# Altium integrated library Allegro Interface Vacuum Fluorescent Display Driver.IntLib: 16 symbols
Pins are listed as number, name and electrical type; pins without a type are passive.

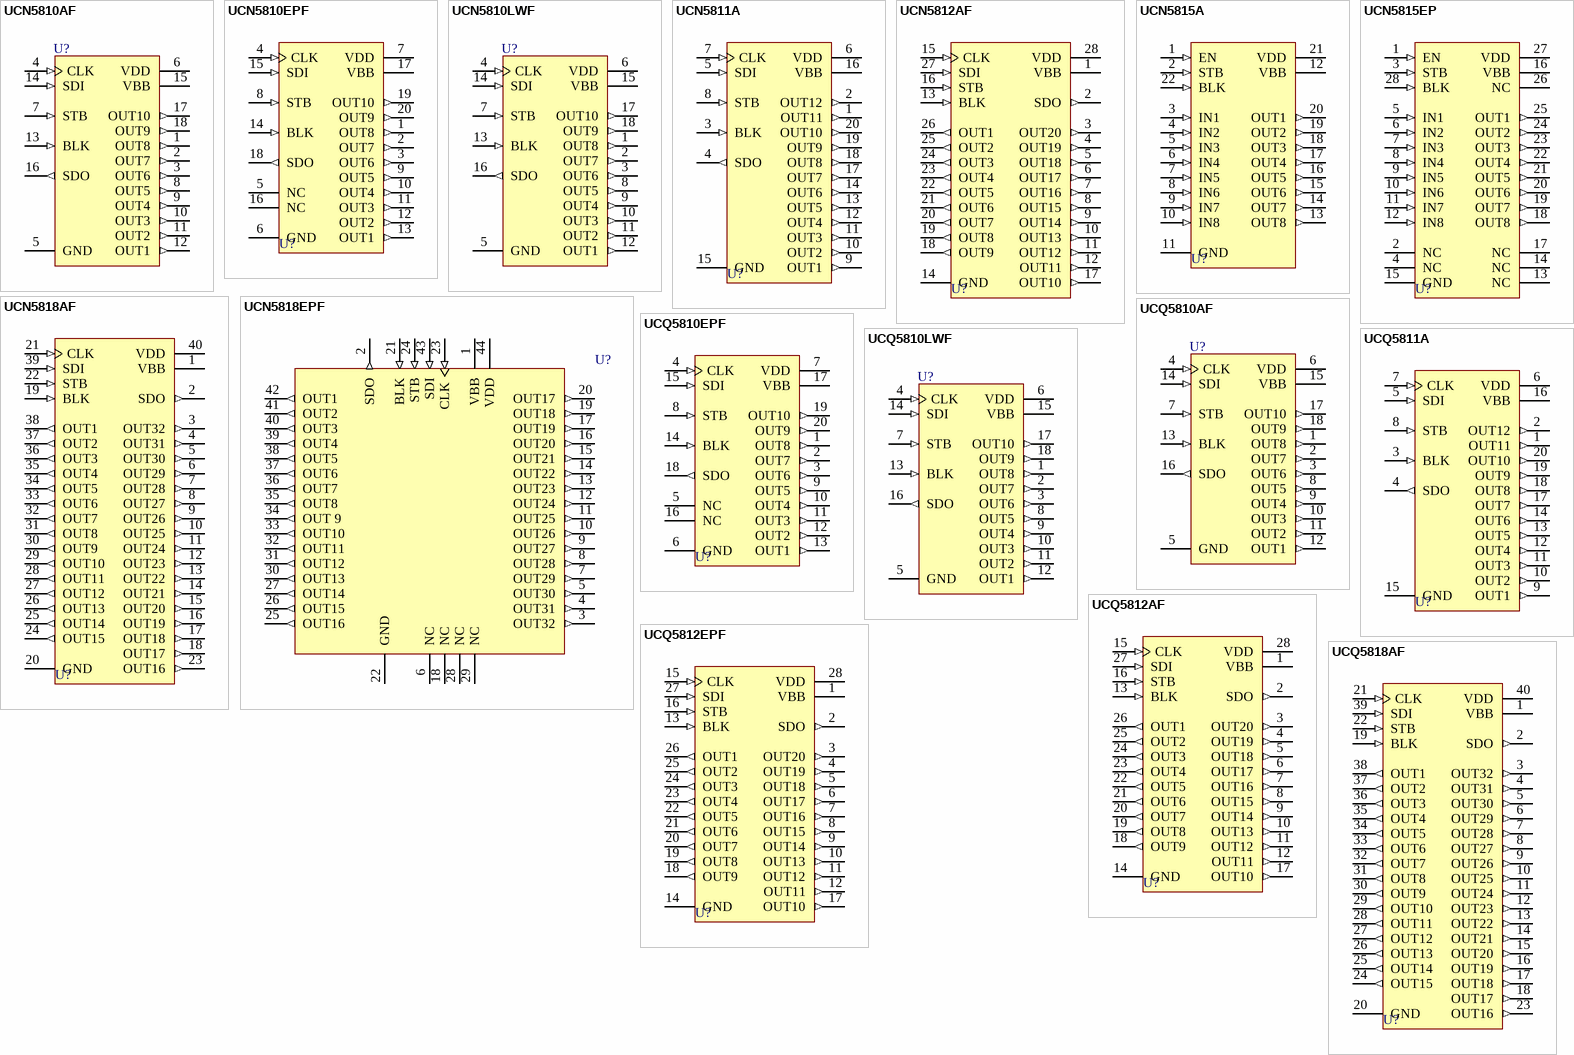
[diagram p0: symbols UCN5810AF to UCQ5818AF]

## UCN5810AF
designator U?
BiMOS II 10-Bit Serial-Input, Latched Source Driver with Active-DMOS Pull-Downs; ComponentAvailability: Obsolete; Published: 13-Oct-2000; LatestRevisionDate: 06-Jun-2005; LatestRevisionNote: Stylized 3D Model Added.; DatasheetVersion: 1995; PackageVersion: 1999; PackageReference: A18; Publisher: Altium Limited; PackageDescription: DIP; 18 Leads; Row Spacing 7.62 mm; Pitch 2.54 mm; ComponentLink1Description: Manufacturer Link; ComponentLink1URL: http://www.allegromicro.com/; ComponentLink2Description: Datasheet; ComponentLink2URL: http://www.allegromicro.com/datafile/archive/5810.pdf
footprint A18 (DIP; 18 Leads; Row Spacing 7.62 mm; Pitch 2.54 mm)
3D model A18 (DIP; 18 Leads; Row Spacing 7.62 mm; Pitch 2.54 mm)
pins: 1 OUT8 (out), 2 OUT7 (out), 3 OUT6 (out), 4 CLK (in), 5 GND (power), 6 VDD (power), 7 STB (in), 8 OUT5 (out), 9 OUT4 (out), 10 OUT3 (out), 11 OUT2 (out), 12 OUT1 (out), 13 BLK (in), 14 SDI (in), 15 VBB (power), 16 SDO (out), 17 OUT10 (out), 18 OUT9 (out)

## UCN5810EPF
designator U?
BiMOS II 10-Bit Serial-Input, Latched Source Driver with Active-DMOS Pull-Downs; ComponentAvailability: Obsolete; Published: 13-Oct-2000; LatestRevisionDate: 13-Apr-2006; LatestRevisionNote: IPC-7351 Footprint Added.; DatasheetVersion: 1995; PackageVersion: 1995; PackageReference: EP20; Publisher: Altium Limited; PackageDescription: 20-Pin Leaded Chip Carrier 1.27 mm Pitch; Code_IPC: PLCC-20; ComponentLink1Description: Manufacturer Link; ComponentLink1URL: http://www.allegromicro.com/; ComponentLink2Description: Datasheet; ComponentLink2URL: http://www.allegromicro.com/datafile/archive/5810.pdf
footprint EP20_N (Leaded Chip Carrier, 20-Leads, Body 9x9mm, Pitch 1.27mm, IPC Medium Density)
footprint EP20_L (Leaded Chip Carrier, 20-Leads, Body 9x9mm, Pitch 1.27mm, IPC High Density)
footprint EP20_M (Leaded Chip Carrier, 20-Leads, Body 9x9mm, Pitch 1.27mm, IPC Low Density)
3D model UCN5810-EP20 (20-Pin Leaded Chip Carrier 1.27 mm Pitch)
pins: 1 OUT8 (out), 2 OUT7 (out), 3 OUT6 (out), 4 CLK (in), 5 NC, 6 GND (power), 7 VDD (power), 8 STB (in), 9 OUT5 (out), 10 OUT4 (out), 11 OUT3 (out), 12 OUT2 (out), 13 OUT1 (out), 14 BLK (in), 15 SDI (in), 16 NC, 17 VBB (power), 18 SDO (out), 19 OUT10 (out), 20 OUT9 (out)

## UCN5810LWF
designator U?
BiMOS II 10-Bit Serial-Input, Latched Source Driver with Active-DMOS Pull-Downs; ComponentAvailability: Obsolete; Published: 13-Oct-2000; LatestRevisionDate: 13-Apr-2006; LatestRevisionNote: IPC-7351 Footprint Added.; DatasheetVersion: 1995; PackageReference: LW18; Publisher: Altium Limited; PackageDescription: 18-Pin Small Outline Integrated Circuit 1.27 mm Pitch; Code_JEDEC: MS-013-AB; ComponentLink1Description: Manufacturer Link; ComponentLink1URL: http://www.allegromicro.com/; ComponentLink2Description: Datasheet; ComponentLink2URL: http://www.allegromicro.com/datafile/archive/5810.pdf
footprint LW18_N (SOIC, 18-Leads, Body 11.6x7.5mm, Pitch 1.27mm, IPC Medium Density)
footprint LW18_L (SOIC, 18-Leads, Body 11.6x7.5mm, Pitch 1.27mm, IPC High Density)
footprint LW18_M (SOIC, 18-Leads, Body 11.6x7.5mm, Pitch 1.27mm, IPC Low Density)
3D model LW18 (18-Pin Small Outline Integrated Circuit 1.27 mm Pitch)
pins: 1 OUT8 (out), 2 OUT7 (out), 3 OUT6 (out), 4 CLK (in), 5 GND (power), 6 VDD (power), 7 STB (in), 8 OUT5 (out), 9 OUT4 (out), 10 OUT3 (out), 11 OUT2 (out), 12 OUT1 (out), 13 BLK (in), 14 SDI (in), 15 VBB (power), 16 SDO (out), 17 OUT10 (out), 18 OUT9 (out)

## UCN5811A
designator U?
BiMOS II 12-Bit Serial-Input, Latched Source Driver; ComponentAvailability: Obsolete; Published: 13-Oct-2000; LatestRevisionDate: 06-Jun-2005; LatestRevisionNote: Stylized 3D Model Added.; DatasheetVersion: 1995; PackageVersion: 1995; PackageReference: A20; Publisher: Altium Limited; PackageDescription: DIP; 20 Leads; Row Spacing 7.62 mm; Pitch 2.54 mm; Code_JEDEC: MS-001-AD; ComponentLink1Description: Manufacturer Link; ComponentLink1URL: http://www.allegromicro.com/; ComponentLink2Description: Datasheet; ComponentLink2URL: http://www.allegromicro.com/datafile/archive/5811.pdf
footprint A20 (DIP; 20 Leads; Row Spacing 7.62 mm; Pitch 2.54 mm)
3D model A20 (DIP; 20 Leads; Row Spacing 7.62 mm; Pitch 2.54 mm)
pins: 1 OUT11 (out), 2 OUT12 (out), 3 BLK (in), 4 SDO (out), 5 SDI (in), 6 VDD (power), 7 CLK (in), 8 STB (in), 9 OUT1 (out), 10 OUT2 (out), 11 OUT3 (out), 12 OUT4 (out), 13 OUT5 (out), 14 OUT6 (out), 15 GND (power), 16 VBB (power), 17 OUT7 (out), 18 OUT8 (out), 19 OUT9 (out), 20 OUT10 (out)

## UCN5812AF
designator U?
BiMOS II 20-Bit Serial-Input, Latched Source Driver with Active-DMOS Pull-Downs; ComponentAvailability: Obsolete; Published: 13-Oct-2000; LatestRevisionDate: 06-Jun-2005; LatestRevisionNote: Stylized 3D Model Added.; DatasheetVersion: 1995; PackageVersion: 1995; PackageReference: A28; Publisher: Altium Limited; PackageDescription: DIP; 28 Leads; Row Spacing 15.24 mm; Pitch 2.54 mm; Code_JEDEC: MS-011-AB; ComponentLink1Description: Manufacturer Link; ComponentLink1URL: http://www.allegromicro.com/; ComponentLink2Description: Datasheet; ComponentLink2URL: http://www.allegromicro.com/datafile/archive/5812.pdf
footprint A28 (DIP; 28 Leads; Row Spacing 15.24 mm; Pitch 2.54 mm)
3D model A28 (DIP; 28 Leads; Row Spacing 15.24 mm; Pitch 2.54 mm)
pins: 1 VBB (power), 2 SDO (out), 3 OUT20 (out), 4 OUT19 (out), 5 OUT18 (out), 6 OUT17 (out), 7 OUT16 (out), 8 OUT15 (out), 9 OUT14 (out), 10 OUT13 (out), 11 OUT12 (out), 12 OUT11 (out), 13 BLK (in), 14 GND (power), 15 CLK (in), 16 STB (in), 17 OUT10 (out), 18 OUT9 (out), 19 OUT8 (out), 20 OUT7 (out), 21 OUT6 (out), 22 OUT5 (out), 23 OUT4 (out), 24 OUT3 (out), 25 OUT2 (out), 26 OUT1 (out), 27 SDI (in), 28 VDD (power)

## UCN5815A
designator U?
BiMOS II 8-Bit Latched Source Driver; ComponentAvailability: Obsolete; Published: 13-Oct-2000; LatestRevisionDate: 06-Jun-2005; LatestRevisionNote: Stylized 3D Model Added.; DatasheetVersion: 1995; PackageVersion: 1995; PackageReference: A22; Publisher: Altium Limited; PackageDescription: DIP; 22 Leads; Row Spacing 10.16 mm; Pitch 2.54 mm; ComponentLink1Description: Manufacturer Link; ComponentLink1URL: http://www.allegromicro.com/; ComponentLink2Description: Datasheet; ComponentLink2URL: http://www.allegromicro.com/datafile/archive/5815.pdf
footprint A22 (DIP; 22 Leads; Row Spacing 10.16 mm; Pitch 2.54 mm)
3D model A22 (DIP; 22 Leads; Row Spacing 10.16 mm; Pitch 2.54 mm)
pins: 1 EN (in), 2 STB (in), 3 IN1 (in), 4 IN2 (in), 5 IN3 (in), 6 IN4 (in), 7 IN5 (in), 8 IN6 (in), 9 IN7 (in), 10 IN8 (in), 11 GND (power), 12 VBB (power), 13 OUT8 (out), 14 OUT7 (out), 15 OUT6 (out), 16 OUT5 (out), 17 OUT4 (out), 18 OUT3 (out), 19 OUT2 (out), 20 OUT1 (out), 21 VDD (power), 22 BLK (in)

## UCN5815EP
designator U?
BiMOS II 8-Bit Latched Source Driver; ComponentAvailability: Obsolete; Published: 13-Oct-2000; LatestRevisionDate: 13-Apr-2006; LatestRevisionNote: IPC-7351 Footprint Added.; DatasheetVersion: 1995; PackageVersion: 1995; PackageReference: EP28; Publisher: Altium Limited; PackageDescription: 28-Pin Leaded Chip Carrier 1.27 mm Pitch; Code_IPC: PLCC-28; ComponentLink1Description: Manufacturer Link; ComponentLink1URL: http://www.allegromicro.com/; ComponentLink2Description: Datasheet; ComponentLink2URL: http://www.allegromicro.com/datafile/archive/5815.pdf
footprint EP28_N (Leaded Chip Carrier, 28-Leads, Body 11.5x11.5mm, Pitch 1.27mm, IPC Medium Density)
footprint EP28_L (Leaded Chip Carrier, 28-Leads, Body 11.5x11.5mm, Pitch 1.27mm, IPC High Density)
footprint EP28_M (Leaded Chip Carrier, 28-Leads, Body 11.5x11.5mm, Pitch 1.27mm, IPC Low Density)
3D model UCN5815-EP28 (28-Pin Leaded Chip Carrier 1.27 mm Pitch)
pins: 1 EN (in), 2 NC, 3 STB (in), 4 NC, 5 IN1 (in), 6 IN2 (in), 7 IN3 (in), 8 IN4 (in), 9 IN5 (in), 10 IN6 (in), 11 IN7 (in), 12 IN8 (in), 13 NC, 14 NC, 15 GND (power), 16 VBB (power), 17 NC, 18 OUT8 (out), 19 OUT7 (out), 20 OUT6 (out), 21 OUT5 (out), 22 OUT4 (out), 23 OUT3 (out), 24 OUT2 (out), 25 OUT1 (out), 26 NC, 27 VDD (power), 28 BLK (in)

## UCN5818AF
designator U?
BiMOS II 32-Bit Serial-Input, Latched Source Driver with Active-DMOS Pull-Downs; ComponentAvailability: Obsolete; Published: 13-Oct-2000; LatestRevisionDate: 06-Jun-2005; LatestRevisionNote: Stylized 3D Model Added.; DatasheetVersion: 1995; PackageVersion: 1995; PackageReference: A40; Publisher: Altium Limited; PackageDescription: DIP; 40 Leads; Row Spacing 15.24 mm; Pitch 2.54 mm; Code_JEDEC: MS-011-AC; ComponentLink1Description: Manufacturer Link; ComponentLink1URL: http://www.allegromicro.com/; ComponentLink2Description: Datasheet; ComponentLink2URL: http://www.allegromicro.com/datafile/archive/5818.pdf
footprint A40 (DIP; 40 Leads; Row Spacing 15.24 mm; Pitch 2.54 mm)
3D model A40 (DIP; 40 Leads; Row Spacing 15.24 mm; Pitch 2.54 mm)
pins: 1 VBB (power), 2 SDO (out), 3 OUT32 (out), 4 OUT31 (out), 5 OUT30 (out), 6 OUT29 (out), 7 OUT28 (out), 8 OUT27 (out), 9 OUT26 (out), 10 OUT25 (out), 11 OUT24 (out), 12 OUT23 (out), 13 OUT22 (out), 14 OUT21 (out), 15 OUT20 (out), 16 OUT19 (out), 17 OUT18 (out), 18 OUT17 (out), 19 BLK (in), 20 GND (power), 21 CLK (in), 22 STB (in), 23 OUT16 (out), 24 OUT15 (out), 25 OUT14 (out), 26 OUT13 (out), 27 OUT12 (out), 28 OUT11 (out), 29 OUT10 (out), 30 OUT9 (out), 31 OUT8 (out), 32 OUT7 (out), 33 OUT6 (out), 34 OUT5 (out), 35 OUT4 (out), 36 OUT3 (out), 37 OUT2 (out), 38 OUT1 (out), 39 SDI (in), 40 VDD (power)

## UCN5818EPF
designator U?
BiMOS II 32-Bit Serial-Input, Latched Source Driver with Active-DMOS Pull-Downs; ComponentAvailability: Obsolete; Published: 13-Oct-2000; LatestRevisionDate: 13-Apr-2006; LatestRevisionNote: IPC-7351 Footprint Added.; DatasheetVersion: 1995; PackageVersion: 1995; PackageReference: EP44; Publisher: Altium Limited; PackageDescription: 44-Pin Leaded Chip Carrier 1.27 mm Pitch; Code_IPC: PLCC-44; ComponentLink1Description: Manufacturer Link; ComponentLink1URL: http://www.allegromicro.com/; ComponentLink2Description: Datasheet; ComponentLink2URL: http://www.allegromicro.com/datafile/archive/5818.pdf
footprint EP44_N (Leaded Chip Carrier, 44-Leads, Body 16.6x16.6mm, Pitch 1.27mm, IPC Medium Density)
footprint EP44_L (Leaded Chip Carrier, 44-Leads, Body 16.6x16.6mm, Pitch 1.27mm, IPC High Density)
footprint EP44_M (Leaded Chip Carrier, 44-Leads, Body 16.6x16.6mm, Pitch 1.27mm, IPC Low Density)
3D model UCN5818-EP44 (44-Pin Leaded Chip Carrier 1.27 mm Pitch)
pins: 1 VBB (power), 2 SDO (out), 3 OUT32 (out), 4 OUT31 (out), 5 OUT30 (out), 6 NC, 7 OUT29 (out), 8 OUT28 (out), 9 OUT27 (out), 10 OUT26 (out), 11 OUT25 (out), 12 OUT24 (out), 13 OUT23 (out), 14 OUT22 (out), 15 OUT21 (out), 16 OUT20 (out), 17 OUT19 (out), 18 NC, 19 OUT18 (out), 20 OUT17 (out), 21 BLK (in), 22 GND (power), 23 CLK (in), 24 STB (in), 25 OUT16 (out), 26 OUT15 (out), 27 OUT14 (out), 28 NC, 29 NC, 30 OUT13 (out), 31 OUT12 (out), 32 OUT11 (out), 33 OUT10 (out), 34 OUT 9 (out), 35 OUT8 (out), 36 OUT7 (out), 37 OUT6 (out), 38 OUT5 (out), 39 OUT4 (out), 40 OUT3 (out), 41 OUT2 (out), 42 OUT1 (out), 43 SDI (in), 44 VDD (power)

## UCQ5810AF
designator U?
BiMOS II 10-Bit Serial-Input, Latched Source Driver with Active-DMOS Pull-Downs; ComponentAvailability: Obsolete; Published: 13-Oct-2000; LatestRevisionDate: 06-Jun-2005; LatestRevisionNote: Stylized 3D Model Added.; DatasheetVersion: 1995; PackageVersion: 1999; PackageReference: A18; Publisher: Altium Limited; PackageDescription: DIP; 18 Leads; Row Spacing 7.62 mm; Pitch 2.54 mm; ComponentLink1Description: Manufacturer Link; ComponentLink1URL: http://www.allegromicro.com/; ComponentLink2Description: Datasheet; ComponentLink2URL: http://www.allegromicro.com/datafile/archive/5810.pdf
footprint A18 (DIP; 18 Leads; Row Spacing 7.62 mm; Pitch 2.54 mm)
3D model A18 (DIP; 18 Leads; Row Spacing 7.62 mm; Pitch 2.54 mm)
pins: 1 OUT8 (out), 2 OUT7 (out), 3 OUT6 (out), 4 CLK (in), 5 GND (power), 6 VDD (power), 7 STB (in), 8 OUT5 (out), 9 OUT4 (out), 10 OUT3 (out), 11 OUT2 (out), 12 OUT1 (out), 13 BLK (in), 14 SDI (in), 15 VBB (power), 16 SDO (out), 17 OUT10 (out), 18 OUT9 (out)

## UCQ5810EPF
designator U?
BiMOS II 10-Bit Serial-Input, Latched Source Driver with Active-DMOS Pull-Downs; ComponentAvailability: Obsolete; Published: 13-Oct-2000; LatestRevisionDate: 13-Apr-2006; LatestRevisionNote: IPC-7351 Footprint Added.; DatasheetVersion: 1995; PackageVersion: 1995; PackageReference: EP20; Publisher: Altium Limited; PackageDescription: 20-Pin Leaded Chip Carrier 1.27 mm Pitch; Code_IPC: PLCC-20; ComponentLink1Description: Manufacturer Link; ComponentLink1URL: http://www.allegromicro.com/; ComponentLink2Description: Datasheet; ComponentLink2URL: http://www.allegromicro.com/datafile/archive/5810.pdf
footprint EP20_N (Leaded Chip Carrier, 20-Leads, Body 9x9mm, Pitch 1.27mm, IPC Medium Density)
footprint EP20_L (Leaded Chip Carrier, 20-Leads, Body 9x9mm, Pitch 1.27mm, IPC High Density)
footprint EP20_M (Leaded Chip Carrier, 20-Leads, Body 9x9mm, Pitch 1.27mm, IPC Low Density)
3D model UCQ5810-EP20 (20-Pin Leaded Chip Carrier 1.27 mm Pitch)
pins: 1 OUT8 (out), 2 OUT7 (out), 3 OUT6 (out), 4 CLK (in), 5 NC, 6 GND (power), 7 VDD (power), 8 STB (in), 9 OUT5 (out), 10 OUT4 (out), 11 OUT3 (out), 12 OUT2 (out), 13 OUT1 (out), 14 BLK (in), 15 SDI (in), 16 NC, 17 VBB (power), 18 SDO (out), 19 OUT10 (out), 20 OUT9 (out)

## UCQ5810LWF
designator U?
BiMOS II 10-Bit Serial-Input, Latched Source Driver with Active-DMOS Pull-Downs; ComponentAvailability: Obsolete; Published: 13-Oct-2000; LatestRevisionDate: 13-Apr-2006; LatestRevisionNote: IPC-7351 Footprint Added.; DatasheetVersion: 1995; PackageReference: LW18; Publisher: Altium Limited; PackageDescription: 18-Pin Small Outline Integrated Circuit 1.27 mm Pitch; Code_JEDEC: MS-013-AB; ComponentLink1Description: Manufacturer Link; ComponentLink1URL: http://www.allegromicro.com/; ComponentLink2Description: Datasheet; ComponentLink2URL: http://www.allegromicro.com/datafile/archive/5810.pdf
footprint LW18_N (SOIC, 18-Leads, Body 11.6x7.5mm, Pitch 1.27mm, IPC Medium Density)
footprint LW18_L (SOIC, 18-Leads, Body 11.6x7.5mm, Pitch 1.27mm, IPC High Density)
footprint LW18_M (SOIC, 18-Leads, Body 11.6x7.5mm, Pitch 1.27mm, IPC Low Density)
3D model LW18 (18-Pin Small Outline Integrated Circuit 1.27 mm Pitch)
pins: 1 OUT8 (out), 2 OUT7 (out), 3 OUT6 (out), 4 CLK (in), 5 GND (power), 6 VDD (power), 7 STB (in), 8 OUT5 (out), 9 OUT4 (out), 10 OUT3 (out), 11 OUT2 (out), 12 OUT1 (out), 13 BLK (in), 14 SDI (in), 15 VBB (power), 16 SDO (out), 17 OUT10 (out), 18 OUT9 (out)

## UCQ5811A
designator U?
BiMOS II 12-Bit Serial-Input, Latched Source Driver; ComponentAvailability: Obsolete; Published: 13-Oct-2000; LatestRevisionDate: 06-Jun-2005; LatestRevisionNote: Stylized 3D Model Added.; DatasheetVersion: 1995; PackageVersion: 1995; PackageReference: A20; Publisher: Altium Limited; PackageDescription: DIP; 20 Leads; Row Spacing 7.62 mm; Pitch 2.54 mm; Code_JEDEC: MS-001-AD; ComponentLink1Description: Manufacturer Link; ComponentLink1URL: http://www.allegromicro.com/; ComponentLink2Description: Datasheet; ComponentLink2URL: http://www.allegromicro.com/datafile/archive/5811.pdf
footprint A20 (DIP; 20 Leads; Row Spacing 7.62 mm; Pitch 2.54 mm)
3D model A20 (DIP; 20 Leads; Row Spacing 7.62 mm; Pitch 2.54 mm)
pins: 1 OUT11 (out), 2 OUT12 (out), 3 BLK (in), 4 SDO (out), 5 SDI (in), 6 VDD (power), 7 CLK (in), 8 STB (in), 9 OUT1 (out), 10 OUT2 (out), 11 OUT3 (out), 12 OUT4 (out), 13 OUT5 (out), 14 OUT6 (out), 15 GND (power), 16 VBB (power), 17 OUT7 (out), 18 OUT8 (out), 19 OUT9 (out), 20 OUT10 (out)

## UCQ5812AF
designator U?
BiMOS II 20-Bit Serial-Input, Latched Source Driver with Active-DMOS Pull-Downs; ComponentAvailability: Obsolete; Published: 13-Oct-2000; LatestRevisionDate: 06-Jun-2005; LatestRevisionNote: Stylized 3D Model Added.; DatasheetVersion: 1995; PackageVersion: 1995; PackageReference: A28; Publisher: Altium Limited; PackageDescription: DIP; 28 Leads; Row Spacing 15.24 mm; Pitch 2.54 mm; Code_JEDEC: MS-011-AB; ComponentLink1Description: Manufacturer Link; ComponentLink1URL: http://www.allegromicro.com/; ComponentLink2Description: Datasheet; ComponentLink2URL: http://www.allegromicro.com/datafile/archive/5812.pdf
footprint A28 (DIP; 28 Leads; Row Spacing 15.24 mm; Pitch 2.54 mm)
3D model A28 (DIP; 28 Leads; Row Spacing 15.24 mm; Pitch 2.54 mm)
pins: 1 VBB (power), 2 SDO (out), 3 OUT20 (out), 4 OUT19 (out), 5 OUT18 (out), 6 OUT17 (out), 7 OUT16 (out), 8 OUT15 (out), 9 OUT14 (out), 10 OUT13 (out), 11 OUT12 (out), 12 OUT11 (out), 13 BLK (in), 14 GND (power), 15 CLK (in), 16 STB (in), 17 OUT10 (out), 18 OUT9 (out), 19 OUT8 (out), 20 OUT7 (out), 21 OUT6 (out), 22 OUT5 (out), 23 OUT4 (out), 24 OUT3 (out), 25 OUT2 (out), 26 OUT1 (out), 27 SDI (in), 28 VDD (power)

## UCQ5812EPF
designator U?
BiMOS II 20-Bit Serial-Input, Latched Source Driver with Active-DMOS Pull-Downs; ComponentAvailability: Obsolete; Published: 13-Oct-2000; LatestRevisionDate: 13-Apr-2006; LatestRevisionNote: IPC-7351 Footprint Added.; DatasheetVersion: 1995; PackageVersion: 1995; PackageReference: EP28; Publisher: Altium Limited; PackageDescription: 28-Pin Leaded Chip Carrier 1.27 mm Pitch; Code_IPC: PLCC-28; ComponentLink1Description: Manufacturer Link; ComponentLink1URL: http://www.allegromicro.com/; ComponentLink2Description: Datasheet; ComponentLink2URL: http://www.allegromicro.com/datafile/archive/5812.pdf
footprint EP28_N (Leaded Chip Carrier, 28-Leads, Body 11.5x11.5mm, Pitch 1.27mm, IPC Medium Density)
footprint EP28_L (Leaded Chip Carrier, 28-Leads, Body 11.5x11.5mm, Pitch 1.27mm, IPC High Density)
footprint EP28_M (Leaded Chip Carrier, 28-Leads, Body 11.5x11.5mm, Pitch 1.27mm, IPC Low Density)
3D model UCQ5812-EP28 (28-Pin Leaded Chip Carrier 1.27 mm Pitch)
pins: 1 VBB (power), 2 SDO (out), 3 OUT20 (out), 4 OUT19 (out), 5 OUT18 (out), 6 OUT17 (out), 7 OUT16 (out), 8 OUT15 (out), 9 OUT14 (out), 10 OUT13 (out), 11 OUT12 (out), 12 OUT11 (out), 13 BLK (in), 14 GND (power), 15 CLK (in), 16 STB (in), 17 OUT10 (out), 18 OUT9 (out), 19 OUT8 (out), 20 OUT7 (out), 21 OUT6 (out), 22 OUT5 (out), 23 OUT4 (out), 24 OUT3 (out), 25 OUT2 (out), 26 OUT1 (out), 27 SDI (in), 28 VDD (power)

## UCQ5818AF
designator U?
BiMOS II 32-Bit Serial-Input, Latched Source Driver with Active-DMOS Pull-Downs; ComponentAvailability: Obsolete; Published: 13-Oct-2000; LatestRevisionDate: 06-Jun-2005; LatestRevisionNote: Stylized 3D Model Added.; DatasheetVersion: 1995; PackageVersion: 1995; PackageReference: A40; Publisher: Altium Limited; PackageDescription: DIP; 40 Leads; Row Spacing 15.24 mm; Pitch 2.54 mm; Code_JEDEC: MS-011-AC; ComponentLink1Description: Manufacturer Link; ComponentLink1URL: http://www.allegromicro.com/; ComponentLink2Description: Datasheet; ComponentLink2URL: http://www.allegromicro.com/datafile/archive/5818.pdf
footprint A40 (DIP; 40 Leads; Row Spacing 15.24 mm; Pitch 2.54 mm)
3D model A40 (DIP; 40 Leads; Row Spacing 15.24 mm; Pitch 2.54 mm)
pins: 1 VBB (power), 2 SDO (out), 3 OUT32 (out), 4 OUT31 (out), 5 OUT30 (out), 6 OUT29 (out), 7 OUT28 (out), 8 OUT27 (out), 9 OUT26 (out), 10 OUT25 (out), 11 OUT24 (out), 12 OUT23 (out), 13 OUT22 (out), 14 OUT21 (out), 15 OUT20 (out), 16 OUT19 (out), 17 OUT18 (out), 18 OUT17 (out), 19 BLK (in), 20 GND (power), 21 CLK (in), 22 STB (in), 23 OUT16 (out), 24 OUT15 (out), 25 OUT14 (out), 26 OUT13 (out), 27 OUT12 (out), 28 OUT11 (out), 29 OUT10 (out), 30 OUT9 (out), 31 OUT8 (out), 32 OUT7 (out), 33 OUT6 (out), 34 OUT5 (out), 35 OUT4 (out), 36 OUT3 (out), 37 OUT2 (out), 38 OUT1 (out), 39 SDI (in), 40 VDD (power)